# EAGLE library part 6250XX22121_62501422121 (library WR-BHD)
WR-BHD 2.00 mm Male Characteristics Rated current: 2 A Working Voltage: 250 V UL approval: E323964 UL94-V0 Applications Industrial Production lines Details see: www.we-online.com/components/products/WTB_WR_BHD_BOX_HEADER_2_00MM_MALE Updated by Ella 2026-09-16 2026 (C) Würth Elektronik
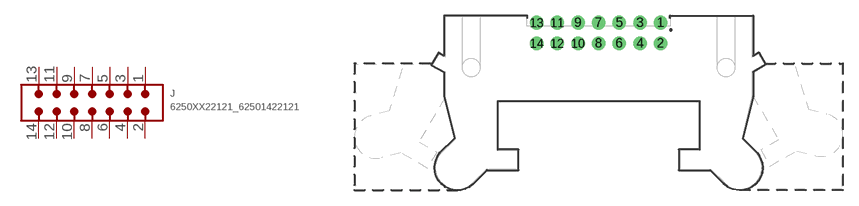
[diagram p55: symbol with the pads of 62501422121; footprint 62501422121]

Designator prefix J

## 6250XX22121_62501422121 (CATEGORY: Connectors; DATASHEET: https://www.we-online.com/redexpert/spec/62501422121?ae; GENDER: Male; LENGTH: 29.7 mm; MANUFACTURER: Würth Elektronik; MOUNT: THT; MPN: 62501422121; OPERATING_TEMPERATURE: -40 °C up to +125 °C; PACKAGING: Tray; PINS: 14; PITCH: 2mm; RATED_CURRENT: 2 A; SIZE: THT Angled; TYPE: Angled; VALUE: 62501422121; VERSION: With locking lever)  [62501422121]
1  1  pas
2  2  pas
3  3  pas
4  4  pas
5  5  pas
6  6  pas
7  7  pas
8  8  pas
9  9  pas
10  10  pas
11  11  pas
12  12  pas
13  13  pas
14  14  pas

## Footprint 62501422121 (pad centres in mm)
WR-BHD Wire-to-Board Connectors, 2mm, Male, THT Angled, 14pins
drill 0.8: 1 6,3.4; 2 6,1.4; 3 4,3.4; 4 4,1.4; 5 2,3.4; 6 2,1.4; 7 0,3.4; 8 0,1.4; 9 -2,3.4; 10 -2,1.4; 11 -4,3.4; 12 -4,1.4; 13 -6,3.4; 14 -6,1.4